# EAGLE library part MC10H116DG (library ON_Semiconductor_By_element14_Batch_1)
Triple Line Receiver
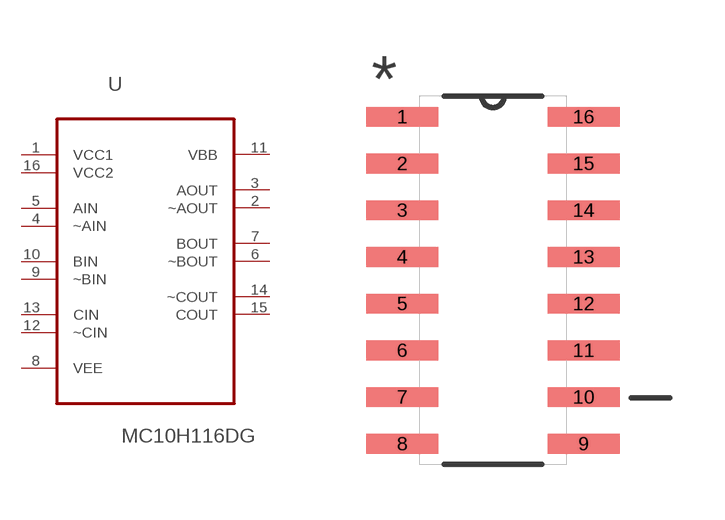
[diagram p181: symbol with the pads of SOIC127P600X175-16N; footprint SOIC127P600X175-16N]

Designator prefix U

## MC10H116DG (MPN: MC10H116DG; OC_FARNELL: 1607610; OC_NEWARK: 26K3776; PACKAGE: SOIC-16; SUPPLIER: ON SEMICONDUCTOR)  [SOIC127P600X175-16N]
1  VCC1  pwr
2  ~AOUT  out
3  AOUT  out
4  ~AIN  in
5  AIN  in
6  ~BOUT  out
7  BOUT  out
8  VEE  pas
9  ~BIN  in
10  BIN  in
11  VBB  out
12  ~CIN  in
13  CIN  in
14  ~COUT  out
15  COUT  out
16  VCC2  pwr

## Footprint SOIC127P600X175-16N (pad centres in mm)
smd 1.956 x 0.533: 1 -2.464,4.445; 2 -2.464,3.175; 3 -2.464,1.905; 4 -2.464,0.635; 5 -2.464,-0.635; 6 -2.464,-1.905; 7 -2.464,-3.175; 8 -2.464,-4.445; 9 2.464,-4.445; 10 2.464,-3.175; 11 2.464,-1.905; 12 2.464,-0.635; 13 2.464,0.635; 14 2.464,1.905; 15 2.464,3.175; 16 2.464,4.445